# Altium schematic symbol library RJ45_HR911105A.SchLib: 1 symbol
Pins are listed as number, name and electrical type; pins without a type are passive.

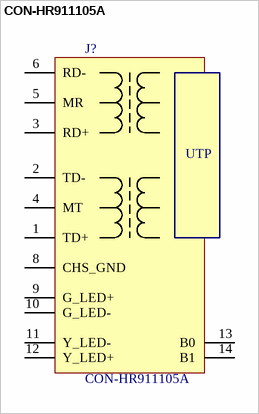
[diagram p0: symbol CON-HR911105A]

## CON-HR911105A
designator J?
Value: HR911105A
footprint HR9111xxA (RJ45 Connector with integrated magnetics)
pins: 1 TD+, 2 TD-, 3 RD+, 4 MT, 5 MR, 6 RD-, 8 CHS_GND, 9 G_LED+, 10 G_LED-, 11 Y_LED-, 12 Y_LED+, 13 B0, 14 B1
text: UTP